# Altium footprint library 613005143121.PcbLib: 1 footprints
Each footprint in its own frame and in the unit in brackets; x right, y up, seen from the top. Pads: shape width x height; smd on the part's side, far side on the other; paste and mask are expansions set on the pad; w line width, h text height; cw(c..) or ccw(c..) is an arc to the next point about the centre after c.
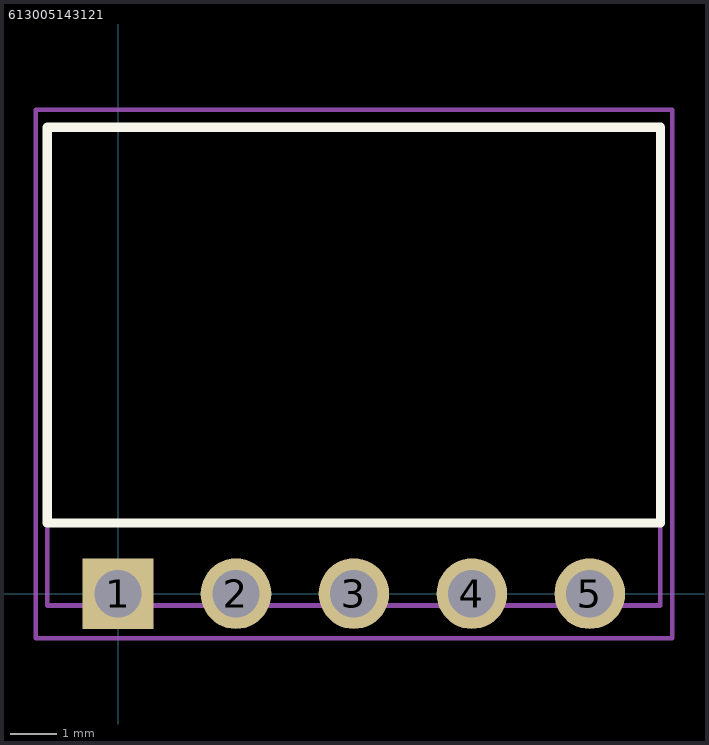
[diagram p0: the footprint, top view; thin cyan lines are the x and y axes]

## 613005143121 [mm] "Pitch 2.54mm Body 13.20X8.5mm High 2.54"
height 2.54
pads (5):
  rect 1.52x1.52 hole 1.02: 1(0,0)
  round 1.52 hole 1.02: 2(2.54,0) 3(5.08,0) 4(7.62,0) 5(10.16,0)
Top Overlay:
  lines w0.2: -1.524,1.524 -1.524,10.046 11.684,10.046 11.684,1.524 -1.524,1.524
Mechanical 13:
  lines w0.1: -1.52,-0.254 -1.52,10.046 11.68,10.046 11.68,-0.254 -1.52,-0.254
Mechanical 15:
  lines w0.1: -1.77,-0.96 -1.77,10.423 11.934,10.423 11.934,-0.96 -1.77,-0.96
3D body: height 2.51, standoff -3.08, extent -1.52,-0.254 11.68,10.046